# Altium schematic symbol library Reference_Voltage.SchLib: 343 symbols (part 2 of 4)
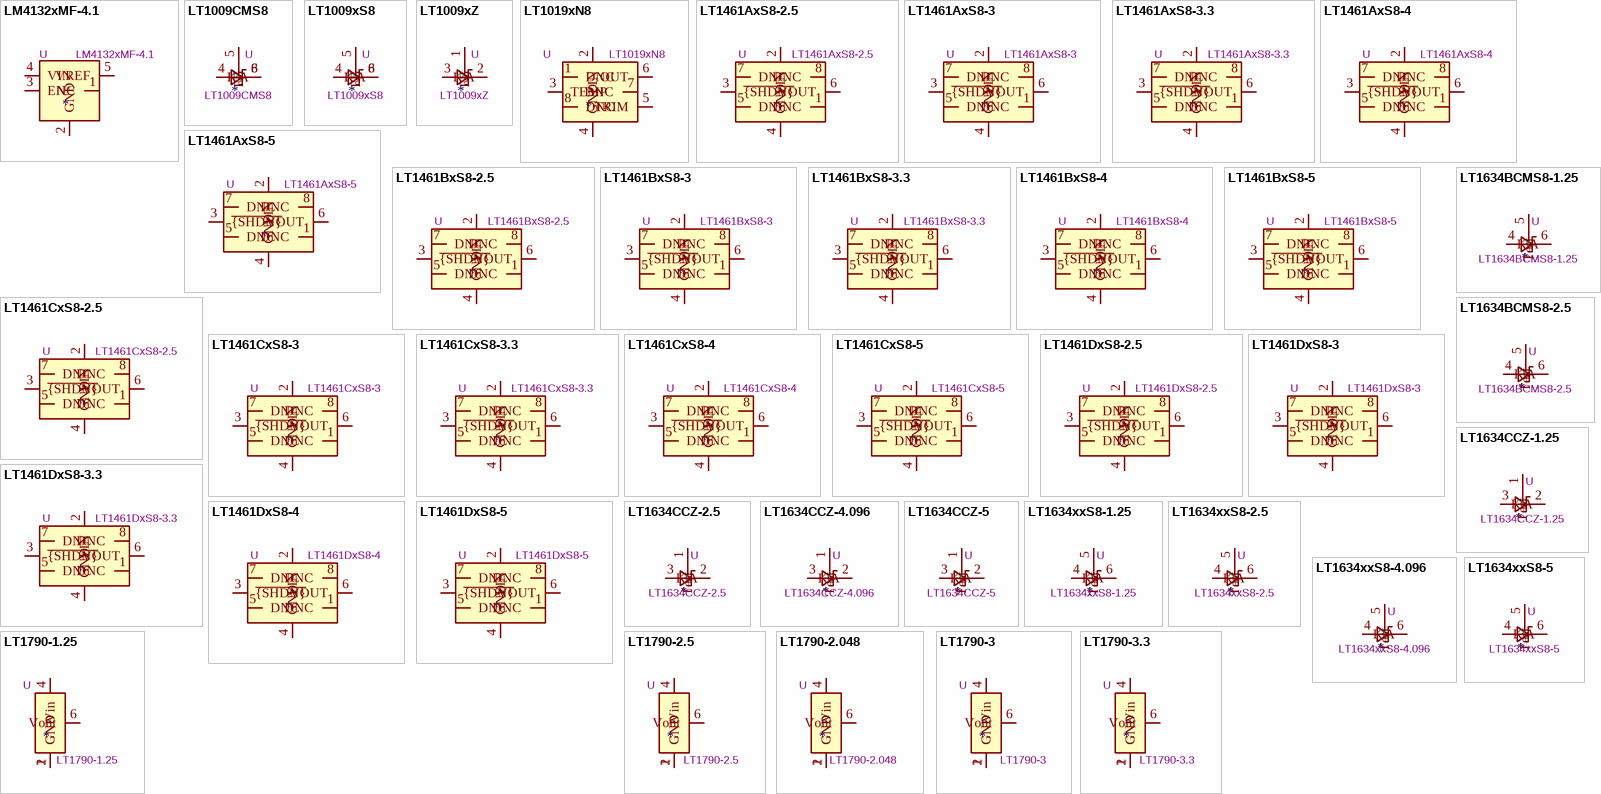
[diagram p9: symbols LM4132xMF-4.1 to LT1790-3.3]

## LT1634xxS8-4.096
designator *  value LT1634xxS8-4.096  Reference: U
4.096V Micropower Precision Shunt Voltage Reference, SO-8; ki_keywords: voltage reference Micropower; ki_fp_filters: SO?8*3.9x4.9mm*P1.27mm*; Footprint: Package_SO:SO-8_3.9x4.9mm_P1.27mm; Datasheet: https://www.analog.com/media/en/technical-documentation/data-sheets/1634ff.pdf; Description_: 4.096V Micropower Precision Shunt Voltage Reference, SO-8
pins: 4 A, 5 Test, 6 K

## LT1634xxS8-5
designator *  value LT1634xxS8-5  Reference: U
5V Micropower Precision Shunt Voltage Reference, SO-8; ki_keywords: voltage reference Micropower; ki_fp_filters: SO?8*3.9x4.9mm*P1.27mm*; Footprint: Package_SO:SO-8_3.9x4.9mm_P1.27mm; Datasheet: https://www.analog.com/media/en/technical-documentation/data-sheets/1634ff.pdf; Description_: 5V Micropower Precision Shunt Voltage Reference, SO-8
pins: 4 A, 5 Test, 6 K

## LT1790-1.25
designator *  value LT1790-1.25  Reference: U
1.25V Voltage Reference, Low Dropout, Micropower, TSOT-23-6; ki_keywords: voltage reference Micropower; ki_fp_filters: TSOT?23?6*; Footprint: Package_TO_SOT_SMD:TSOT-23-6; Datasheet: https://www.analog.com/media/en/technical-documentation/data-sheets/1790fc.pdf; Description_: 1.25V Voltage Reference, Low Dropout, Micropower, TSOT-23-6
pins: 1 GND, 2 GND, 4 Vin, 6 Vout

## LT1790-2.5
designator *  value LT1790-2.5  Reference: U
2.5V Voltage Reference, Low Dropout, Micropower, TSOT-23-6; ki_keywords: voltage reference Micropower; ki_fp_filters: TSOT?23?6*; Footprint: Package_TO_SOT_SMD:TSOT-23-6; Datasheet: https://www.analog.com/media/en/technical-documentation/data-sheets/1790fc.pdf; Description_: 2.5V Voltage Reference, Low Dropout, Micropower, TSOT-23-6
pins: 1 GND, 2 GND, 4 Vin, 6 Vout

## LT1790-2.048
designator *  value LT1790-2.048  Reference: U
2.048V Voltage Reference, Low Dropout, Micropower, TSOT-23-6; ki_keywords: voltage reference Micropower; ki_fp_filters: TSOT?23?6*; Footprint: Package_TO_SOT_SMD:TSOT-23-6; Datasheet: https://www.analog.com/media/en/technical-documentation/data-sheets/1790fc.pdf; Description_: 2.048V Voltage Reference, Low Dropout, Micropower, TSOT-23-6
pins: 1 GND, 2 GND, 4 Vin, 6 Vout

## LT1790-3
designator *  value LT1790-3  Reference: U
3V Voltage Reference, Low Dropout, Micropower, TSOT-23-6; ki_keywords: voltage reference Micropower; ki_fp_filters: TSOT?23?6*; Footprint: Package_TO_SOT_SMD:TSOT-23-6; Datasheet: https://www.analog.com/media/en/technical-documentation/data-sheets/1790fc.pdf; Description_: 3V Voltage Reference, Low Dropout, Micropower, TSOT-23-6
pins: 1 GND, 2 GND, 4 Vin, 6 Vout

## LT1790-3.3
designator *  value LT1790-3.3  Reference: U
3.3V Voltage Reference, Low Dropout, Micropower, TSOT-23-6; ki_keywords: voltage reference Micropower; ki_fp_filters: TSOT?23?6*; Footprint: Package_TO_SOT_SMD:TSOT-23-6; Datasheet: https://www.analog.com/media/en/technical-documentation/data-sheets/1790fc.pdf; Description_: 3.3V Voltage Reference, Low Dropout, Micropower, TSOT-23-6
pins: 1 GND, 2 GND, 4 Vin, 6 Vout

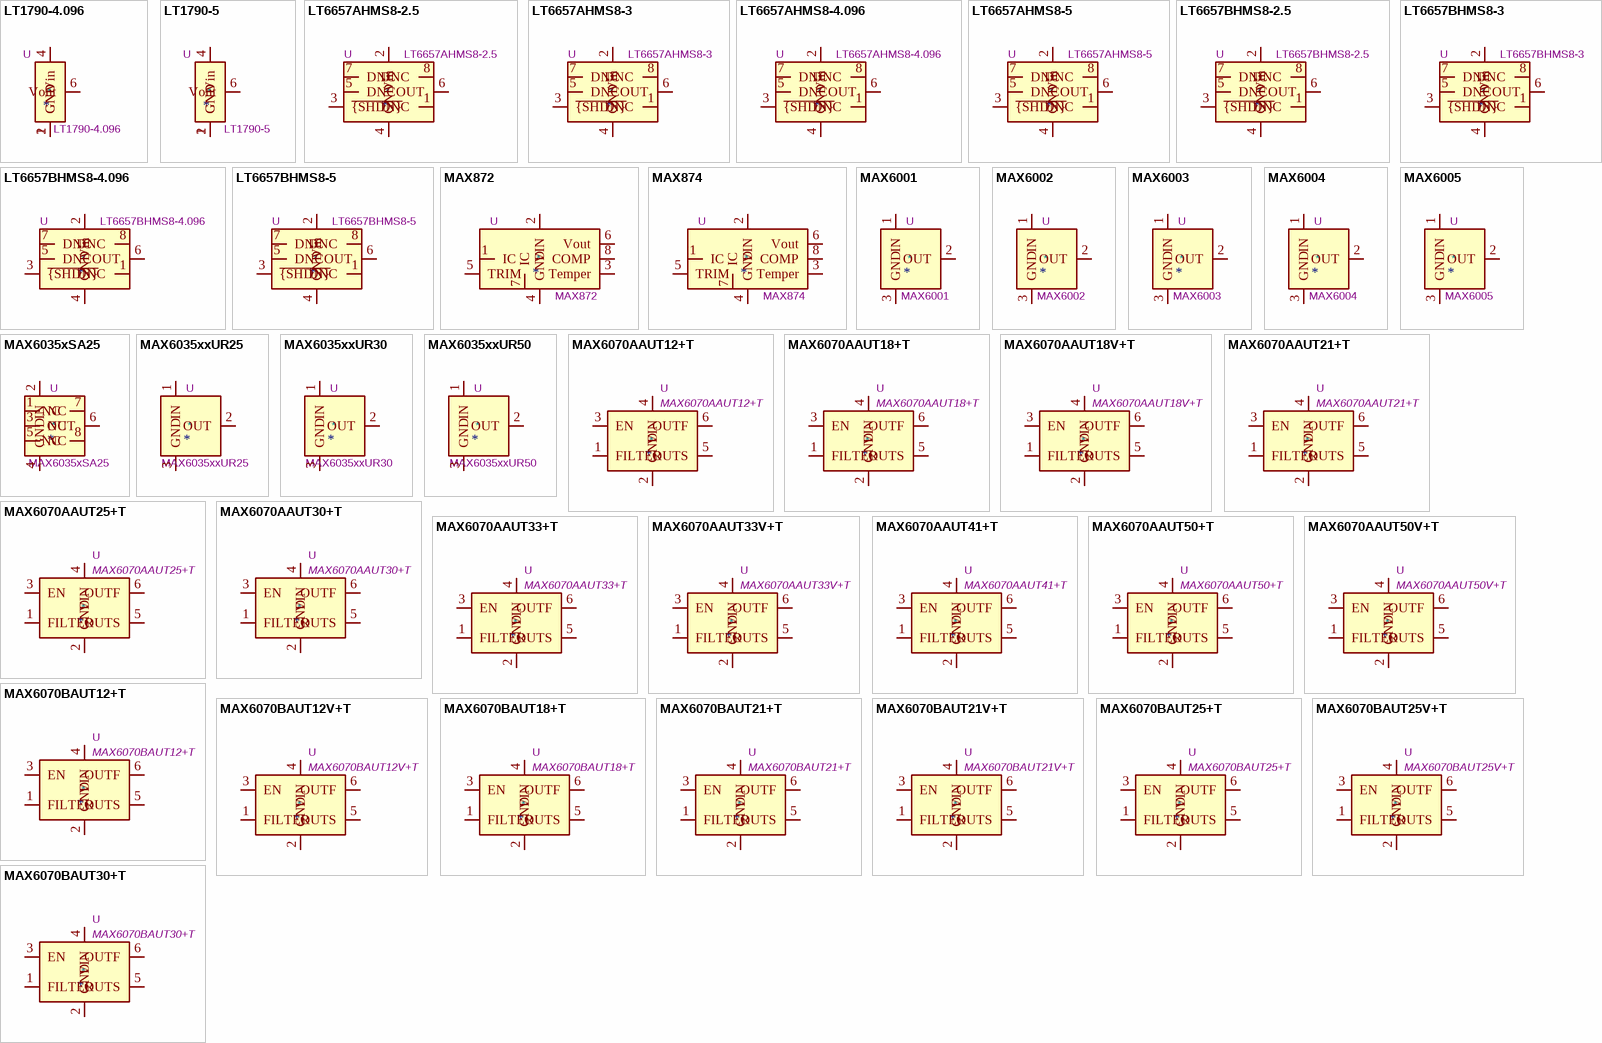
[diagram p3: symbols LT1790-4.096 to MAX6070BAUT30+T]

## LT1790-4.096
designator *  value LT1790-4.096  Reference: U
4.096V Voltage Reference, Low Dropout, Micropower, TSOT-23-6; ki_keywords: voltage reference Micropower; ki_fp_filters: TSOT?23?6*; Footprint: Package_TO_SOT_SMD:TSOT-23-6; Datasheet: https://www.analog.com/media/en/technical-documentation/data-sheets/1790fc.pdf; Description_: 4.096V Voltage Reference, Low Dropout, Micropower, TSOT-23-6
pins: 1 GND, 2 GND, 4 Vin, 6 Vout

## LT1790-5
designator *  value LT1790-5  Reference: U
5V Voltage Reference, Low Dropout, Micropower, TSOT-23-6; ki_keywords: voltage reference Micropower; ki_fp_filters: TSOT?23?6*; Footprint: Package_TO_SOT_SMD:TSOT-23-6; Datasheet: https://www.analog.com/media/en/technical-documentation/data-sheets/1790fc.pdf; Description_: 5V Voltage Reference, Low Dropout, Micropower, TSOT-23-6
pins: 1 GND, 2 GND, 4 Vin, 6 Vout

## LT6657AHMS8-2.5
designator *  value LT6657AHMS8-2.5  Reference: U
Precision voltage reference, 40V input, 10mA output, 1.5ppm/C drift, 2.5V output, MSOP-8; ki_keywords: voltage reference vref; ki_fp_filters: MSOP*3x3mm*P0.65mm*; Footprint: Package_SO:MSOP-8_3x3mm_P0.65mm; Datasheet: https://www.analog.com/media/en/technical-documentation/data-sheets/6657fd.pdf; Description_: Precision voltage reference, 40V input, 10mA output, 1.5ppm/C drift, 2.5V output, MSOP-8
pins: 1 DNC, 2 Vin, 3 ~{{SHDN}}, 4 GND, 5 DNC, 6 OUT, 7 DNC, 8 DNC

## LT6657AHMS8-3
designator *  value LT6657AHMS8-3  Reference: U
Precision voltage reference, 40V input, 10mA output, 1.5ppm/C drift, 3.0V output, MSOP-8; ki_keywords: voltage reference vref; ki_fp_filters: MSOP*3x3mm*P0.65mm*; Footprint: Package_SO:MSOP-8_3x3mm_P0.65mm; Datasheet: https://www.analog.com/media/en/technical-documentation/data-sheets/6657fd.pdf; Description_: Precision voltage reference, 40V input, 10mA output, 1.5ppm/C drift, 3.0V output, MSOP-8
pins: 1 DNC, 2 Vin, 3 ~{{SHDN}}, 4 GND, 5 DNC, 6 OUT, 7 DNC, 8 DNC

## LT6657AHMS8-4.096
designator *  value LT6657AHMS8-4.096  Reference: U
Precision voltage reference, 40V input, 10mA output, 1.5ppm/C drift, 4.096V output, MSOP-8; ki_keywords: voltage reference vref; ki_fp_filters: MSOP*3x3mm*P0.65mm*; Footprint: Package_SO:MSOP-8_3x3mm_P0.65mm; Datasheet: https://www.analog.com/media/en/technical-documentation/data-sheets/6657fd.pdf; Description_: Precision voltage reference, 40V input, 10mA output, 1.5ppm/C drift, 4.096V output, MSOP-8
pins: 1 DNC, 2 Vin, 3 ~{{SHDN}}, 4 GND, 5 DNC, 6 OUT, 7 DNC, 8 DNC

## LT6657AHMS8-5
designator *  value LT6657AHMS8-5  Reference: U
Precision voltage reference, 40V input, 10mA output, 1.5ppm/C drift, 5.0V output, MSOP-8; ki_keywords: voltage reference vref; ki_fp_filters: MSOP*3x3mm*P0.65mm*; Footprint: Package_SO:MSOP-8_3x3mm_P0.65mm; Datasheet: https://www.analog.com/media/en/technical-documentation/data-sheets/6657fd.pdf; Description_: Precision voltage reference, 40V input, 10mA output, 1.5ppm/C drift, 5.0V output, MSOP-8
pins: 1 DNC, 2 Vin, 3 ~{{SHDN}}, 4 GND, 5 DNC, 6 OUT, 7 DNC, 8 DNC

## LT6657BHMS8-2.5
designator *  value LT6657BHMS8-2.5  Reference: U
Precision voltage reference, 40V input, 10mA output, 3.0ppm/C drift, 2.5V output, MSOP-8; ki_keywords: voltage reference vref; ki_fp_filters: MSOP*3x3mm*P0.65mm*; Footprint: Package_SO:MSOP-8_3x3mm_P0.65mm; Datasheet: https://www.analog.com/media/en/technical-documentation/data-sheets/6657fd.pdf; Description_: Precision voltage reference, 40V input, 10mA output, 3.0ppm/C drift, 2.5V output, MSOP-8
pins: 1 DNC, 2 Vin, 3 ~{{SHDN}}, 4 GND, 5 DNC, 6 OUT, 7 DNC, 8 DNC

## LT6657BHMS8-3
designator *  value LT6657BHMS8-3  Reference: U
Precision voltage reference, 40V input, 10mA output, 3.0ppm/C drift, 3.0V output, MSOP-8; ki_keywords: voltage reference vref; ki_fp_filters: MSOP*3x3mm*P0.65mm*; Footprint: Package_SO:MSOP-8_3x3mm_P0.65mm; Datasheet: https://www.analog.com/media/en/technical-documentation/data-sheets/6657fd.pdf; Description_: Precision voltage reference, 40V input, 10mA output, 3.0ppm/C drift, 3.0V output, MSOP-8
pins: 1 DNC, 2 Vin, 3 ~{{SHDN}}, 4 GND, 5 DNC, 6 OUT, 7 DNC, 8 DNC

## LT6657BHMS8-4.096
designator *  value LT6657BHMS8-4.096  Reference: U
Precision voltage reference, 40V input, 10mA output, 3ppm/C drift, 4.096V output, MSOP-8; ki_keywords: voltage reference vref; ki_fp_filters: MSOP*3x3mm*P0.65mm*; Footprint: Package_SO:MSOP-8_3x3mm_P0.65mm; Datasheet: https://www.analog.com/media/en/technical-documentation/data-sheets/6657fd.pdf; Description_: Precision voltage reference, 40V input, 10mA output, 3ppm/C drift, 4.096V output, MSOP-8
pins: 1 DNC, 2 Vin, 3 ~{{SHDN}}, 4 GND, 5 DNC, 6 OUT, 7 DNC, 8 DNC

## LT6657BHMS8-5
designator *  value LT6657BHMS8-5  Reference: U
Precision voltage reference, 40V input, 10mA output, 3.0ppm/C drift, 5.0V output, MSOP-8; ki_keywords: voltage reference vref; ki_fp_filters: MSOP*3x3mm*P0.65mm*; Footprint: Package_SO:MSOP-8_3x3mm_P0.65mm; Datasheet: https://www.analog.com/media/en/technical-documentation/data-sheets/6657fd.pdf; Description_: Precision voltage reference, 40V input, 10mA output, 3.0ppm/C drift, 5.0V output, MSOP-8
pins: 1 DNC, 2 Vin, 3 ~{{SHDN}}, 4 GND, 5 DNC, 6 OUT, 7 DNC, 8 DNC

## MAX872
designator *  value MAX872  Reference: U
10µA Low-Dropout Precision Voltage Reference, SO-8/DIP-8; ki_fp_filters: DIP*W7.62mm* SOIC*3.9x4.9mm*P1.27mm*; Datasheet: https://pdfserv.maximintegrated.com/en/ds/MAX872-MAX874.pdf; Description_: 10µA Low-Dropout Precision Voltage Reference, SO-8/DIP-8; ki_keywords: Low-Dropout Precision Voltage Reference
pins: 1 IC, 2 VIN, 3 Temper, 4 GND, 5 TRIM, 6 Vout, 7 IC, 8 COMP

## MAX874
designator *  value MAX874  Reference: U
10µA Low-Dropout Precision Voltage Reference, SO-8/DIP-8; ki_fp_filters: DIP*W7.62mm* SOIC*3.9x4.9mm*P1.27mm*; Datasheet: https://pdfserv.maximintegrated.com/en/ds/MAX872-MAX874.pdf; Description_: 10µA Low-Dropout Precision Voltage Reference, SO-8/DIP-8; ki_keywords: Low-Dropout Precision Voltage Reference
pins: 1 IC, 2 VIN, 3 Temper, 4 GND, 5 TRIM, 6 Vout, 7 IC, 8 COMP

## MAX6001
designator *  value MAX6001  Reference: U
1.250V series voltage reference, ±1% accuracy,  100ppm/°C temperature coefficient, SOT-23; ki_keywords: voltage reference ldo; ki_fp_filters: SOT?23*; Footprint: Package_TO_SOT_SMD:SOT-23; Datasheet: https://www.analog.com/media/en/technical-documentation/data-sheets/MAX6001-MAX6005.pdf; Description_: 1.250V series voltage reference, ±1% accuracy,  100ppm/°C temperature coefficient, SOT-23
pins: 1 IN, 2 OUT, 3 GND

## MAX6002
designator *  value MAX6002  Reference: U
2.5V series voltage reference, ±1% accuracy,  100ppm/°C temperature coefficient, SOT-23; ki_keywords: voltage reference ldo; ki_fp_filters: SOT?23*; Footprint: Package_TO_SOT_SMD:SOT-23; Datasheet: https://www.analog.com/media/en/technical-documentation/data-sheets/MAX6001-MAX6005.pdf; Description_: 2.5V series voltage reference, ±1% accuracy,  100ppm/°C temperature coefficient, SOT-23
pins: 1 IN, 2 OUT, 3 GND

## MAX6003
designator *  value MAX6003  Reference: U
3.0V series voltage reference, ±1% accuracy,  100ppm/°C temperature coefficient, SOT-23; ki_keywords: voltage reference ldo; ki_fp_filters: SOT?23*; Footprint: Package_TO_SOT_SMD:SOT-23; Datasheet: https://www.analog.com/media/en/technical-documentation/data-sheets/MAX6001-MAX6005.pdf; Description_: 3.0V series voltage reference, ±1% accuracy,  100ppm/°C temperature coefficient, SOT-23
pins: 1 IN, 2 OUT, 3 GND

## MAX6004
designator *  value MAX6004  Reference: U
4.096V series voltage reference, ±1% accuracy,  100ppm/°C temperature coefficient, SOT-23; ki_keywords: voltage reference ldo; ki_fp_filters: SOT?23*; Footprint: Package_TO_SOT_SMD:SOT-23; Datasheet: https://www.analog.com/media/en/technical-documentation/data-sheets/MAX6001-MAX6005.pdf; Description_: 4.096V series voltage reference, ±1% accuracy,  100ppm/°C temperature coefficient, SOT-23
pins: 1 IN, 2 OUT, 3 GND

## MAX6005
designator *  value MAX6005  Reference: U
5.0V series voltage reference, ±1% accuracy,  100ppm/°C temperature coefficient, SOT-23; ki_keywords: voltage reference ldo; ki_fp_filters: SOT?23*; Footprint: Package_TO_SOT_SMD:SOT-23; Datasheet: https://www.analog.com/media/en/technical-documentation/data-sheets/MAX6001-MAX6005.pdf; Description_: 5.0V series voltage reference, ±1% accuracy,  100ppm/°C temperature coefficient, SOT-23
pins: 1 IN, 2 OUT, 3 GND

## MAX6035xSA25
designator *  value MAX6035xSA25  Reference: U
2.5V, High-Supply-Voltage, Precision Voltage Reference, SOIC-8; ki_keywords: vref; ki_fp_filters: SOIC*3.9x4.9mm*P1.27mm*; Footprint: Package_SO:SOIC-8_3.9x4.9mm_P1.27mm; Datasheet: https://datasheets.maximintegrated.com/en/ds/MAX6035.pdf; Description_: 2.5V, High-Supply-Voltage, Precision Voltage Reference, SOIC-8
pins: 1 NC, 2 IN, 3 NC, 4 GND, 5 NC, 6 OUT, 7 NC, 8 NC

## MAX6035xxUR25
designator *  value MAX6035xxUR25  Reference: U
2.5V, High-Supply-Voltage, Precision Voltage Reference, SOT-23; ki_keywords: vref; ki_fp_filters: SOT?23*; Footprint: Package_TO_SOT_SMD:SOT-23; Datasheet: https://datasheets.maximintegrated.com/en/ds/MAX6035.pdf; Description_: 2.5V, High-Supply-Voltage, Precision Voltage Reference, SOT-23
pins: 1 IN, 2 OUT, 3 GND

## MAX6035xxUR30
designator *  value MAX6035xxUR30  Reference: U
3V, High-Supply-Voltage, Precision Voltage Reference, SOT-23; ki_keywords: vref; ki_fp_filters: SOT?23*; Footprint: Package_TO_SOT_SMD:SOT-23; Datasheet: https://datasheets.maximintegrated.com/en/ds/MAX6035.pdf; Description_: 3V, High-Supply-Voltage, Precision Voltage Reference, SOT-23
pins: 1 IN, 2 OUT, 3 GND

## MAX6035xxUR50
designator *  value MAX6035xxUR50  Reference: U
5V, High-Supply-Voltage, Precision Voltage Reference, SOT-23; ki_keywords: vref; ki_fp_filters: SOT?23*; Footprint: Package_TO_SOT_SMD:SOT-23; Datasheet: https://datasheets.maximintegrated.com/en/ds/MAX6035.pdf; Description_: 5V, High-Supply-Voltage, Precision Voltage Reference, SOT-23
pins: 1 IN, 2 OUT, 3 GND

## MAX6070AAUT12+T
designator *  value MAX6070AAUT12+T  Reference: U
Low-Noise, High-Precision Series Voltage Reference, 1.25V, ±0.04% initial accuracy, SOT-23-6; ki_keywords: Low Noise Precision Voltage Reference; ki_fp_filters: SOT?23*; Footprint: Package_TO_SOT_SMD:SOT-23-6; Datasheet: https://www.analog.com/media/en/technical-documentation/data-sheets/max6070-max6071.pdf; Description_: Low-Noise, High-Precision Series Voltage Reference, 1.25V, ±0.04% initial accuracy, SOT-23-6
pins: 1 FILTER, 2 GND, 3 EN, 4 VIN, 5 OUTS, 6 OUTF

## MAX6070AAUT18+T
designator *  value MAX6070AAUT18+T  Reference: U
Low-Noise, High-Precision Series Voltage Reference, 1.8V, ±0.04% initial accuracy, SOT-23-6; ki_keywords: Low Noise Precision Voltage Reference; ki_fp_filters: SOT?23*; Footprint: Package_TO_SOT_SMD:SOT-23-6; Datasheet: https://www.analog.com/media/en/technical-documentation/data-sheets/max6070-max6071.pdf; Description_: Low-Noise, High-Precision Series Voltage Reference, 1.8V, ±0.04% initial accuracy, SOT-23-6
pins: 1 FILTER, 2 GND, 3 EN, 4 VIN, 5 OUTS, 6 OUTF

## MAX6070AAUT18V+T
designator *  value MAX6070AAUT18V+T  Reference: U
Low-Noise, High-Precision Series Voltage Reference, 1.8V, ±0.04% initial accuracy, SOT-23-6; ki_keywords: Low Noise Precision Voltage Reference AEC-Q100 MAX6070AAUT18/V+T; ki_fp_filters: SOT?23*; Footprint: Package_TO_SOT_SMD:SOT-23-6; Datasheet: https://www.analog.com/media/en/technical-documentation/data-sheets/max6070-max6071.pdf; Description_: Low-Noise, High-Precision Series Voltage Reference, 1.8V, ±0.04% initial accuracy, SOT-23-6
pins: 1 FILTER, 2 GND, 3 EN, 4 VIN, 5 OUTS, 6 OUTF

## MAX6070AAUT21+T
designator *  value MAX6070AAUT21+T  Reference: U
Low-Noise, High-Precision Series Voltage Reference, 2.048V, ±0.04% initial accuracy, SOT-23-6; ki_keywords: Low Noise Precision Voltage Reference; ki_fp_filters: SOT?23*; Footprint: Package_TO_SOT_SMD:SOT-23-6; Datasheet: https://www.analog.com/media/en/technical-documentation/data-sheets/MAX6070-MAX6071.pdf; Description_: Low-Noise, High-Precision Series Voltage Reference, 2.048V, ±0.04% initial accuracy, SOT-23-6
pins: 1 FILTER, 2 GND, 3 EN, 4 VIN, 5 OUTS, 6 OUTF

## MAX6070AAUT25+T
designator *  value MAX6070AAUT25+T  Reference: U
Low-Noise, High-Precision Series Voltage Reference, 2.5V, ±0.04% initial accuracy, SOT-23-6; ki_keywords: Low Noise Precision Voltage Reference; ki_fp_filters: SOT?23*; Footprint: Package_TO_SOT_SMD:SOT-23-6; Datasheet: https://www.analog.com/media/en/technical-documentation/data-sheets/MAX6070-MAX6071.pdf; Description_: Low-Noise, High-Precision Series Voltage Reference, 2.5V, ±0.04% initial accuracy, SOT-23-6
pins: 1 FILTER, 2 GND, 3 EN, 4 VIN, 5 OUTS, 6 OUTF

## MAX6070AAUT30+T
designator *  value MAX6070AAUT30+T  Reference: U
Low-Noise, High-Precision Series Voltage Reference, 3V, ±0.04% initial accuracy, SOT-23-6; ki_keywords: Low Noise Precision Voltage Reference; ki_fp_filters: SOT?23*; Footprint: Package_TO_SOT_SMD:SOT-23-6; Datasheet: https://www.analog.com/media/en/technical-documentation/data-sheets/MAX6070-MAX6071.pdf; Description_: Low-Noise, High-Precision Series Voltage Reference, 3V, ±0.04% initial accuracy, SOT-23-6
pins: 1 FILTER, 2 GND, 3 EN, 4 VIN, 5 OUTS, 6 OUTF

## MAX6070AAUT33+T
designator *  value MAX6070AAUT33+T  Reference: U
Low-Noise, High-Precision Series Voltage Reference, 3.3V, ±0.04% initial accuracy, SOT-23-6; ki_keywords: Low Noise Precision Voltage Reference; ki_fp_filters: SOT?23*; Footprint: Package_TO_SOT_SMD:SOT-23-6; Datasheet: https://www.analog.com/media/en/technical-documentation/data-sheets/MAX6070-MAX6071.pdf; Description_: Low-Noise, High-Precision Series Voltage Reference, 3.3V, ±0.04% initial accuracy, SOT-23-6
pins: 1 FILTER, 2 GND, 3 EN, 4 VIN, 5 OUTS, 6 OUTF

## MAX6070AAUT33V+T
designator *  value MAX6070AAUT33V+T  Reference: U
Low-Noise, High-Precision Series Voltage Reference, 3.3V, ±0.04% initial accuracy, SOT-23-6; ki_keywords: Low Noise Precision Voltage Reference AEC-Q100 MAX6070AAUT33/V+T; ki_fp_filters: SOT?23*; Footprint: Package_TO_SOT_SMD:SOT-23-6; Datasheet: https://www.analog.com/media/en/technical-documentation/data-sheets/MAX6070-MAX6071.pdf; Description_: Low-Noise, High-Precision Series Voltage Reference, 3.3V, ±0.04% initial accuracy, SOT-23-6
pins: 1 FILTER, 2 GND, 3 EN, 4 VIN, 5 OUTS, 6 OUTF

## MAX6070AAUT41+T
designator *  value MAX6070AAUT41+T  Reference: U
Low-Noise, High-Precision Series Voltage Reference, 4.096V, ±0.04% initial accuracy, SOT-23-6; ki_keywords: Low Noise Precision Voltage Reference; ki_fp_filters: SOT?23*; Footprint: Package_TO_SOT_SMD:SOT-23-6; Datasheet: https://www.analog.com/media/en/technical-documentation/data-sheets/MAX6070-MAX6071.pdf; Description_: Low-Noise, High-Precision Series Voltage Reference, 4.096V, ±0.04% initial accuracy, SOT-23-6
pins: 1 FILTER, 2 GND, 3 EN, 4 VIN, 5 OUTS, 6 OUTF

## MAX6070AAUT50+T
designator *  value MAX6070AAUT50+T  Reference: U
Low-Noise, High-Precision Series Voltage Reference, 5V, ±0.04% initial accuracy, SOT-23-6; ki_keywords: Low Noise Precision Voltage Reference; ki_fp_filters: SOT?23*; Footprint: Package_TO_SOT_SMD:SOT-23-6; Datasheet: https://www.analog.com/media/en/technical-documentation/data-sheets/MAX6070-MAX6071.pdf; Description_: Low-Noise, High-Precision Series Voltage Reference, 5V, ±0.04% initial accuracy, SOT-23-6
pins: 1 FILTER, 2 GND, 3 EN, 4 VIN, 5 OUTS, 6 OUTF

## MAX6070AAUT50V+T
designator *  value MAX6070AAUT50V+T  Reference: U
Low-Noise, High-Precision Series Voltage Reference, 5V, ±0.04% initial accuracy, SOT-23-6; ki_keywords: Low Noise Precision Voltage Reference AEC-Q100 MAX6070AAUT50/V+T; ki_fp_filters: SOT?23*; Footprint: Package_TO_SOT_SMD:SOT-23-6; Datasheet: https://www.analog.com/media/en/technical-documentation/data-sheets/MAX6070-MAX6071.pdf; Description_: Low-Noise, High-Precision Series Voltage Reference, 5V, ±0.04% initial accuracy, SOT-23-6
pins: 1 FILTER, 2 GND, 3 EN, 4 VIN, 5 OUTS, 6 OUTF

## MAX6070BAUT12+T
designator *  value MAX6070BAUT12+T  Reference: U
Low-Noise, High-Precision Series Voltage Reference, 1.25V, ±0.08% initial accuracy, SOT-23-6; ki_keywords: Low Noise Precision Voltage Reference; ki_fp_filters: SOT?23*; Footprint: Package_TO_SOT_SMD:SOT-23-6; Datasheet: https://www.analog.com/media/en/technical-documentation/data-sheets/MAX6070-MAX6071.pdf; Description_: Low-Noise, High-Precision Series Voltage Reference, 1.25V, ±0.08% initial accuracy, SOT-23-6
pins: 1 FILTER, 2 GND, 3 EN, 4 VIN, 5 OUTS, 6 OUTF

## MAX6070BAUT12V+T
designator *  value MAX6070BAUT12V+T  Reference: U
Low-Noise, High-Precision Series Voltage Reference, 1.25V, ±0.08% initial accuracy, SOT-23-6; ki_keywords: Low Noise Precision Voltage Reference AEC-Q100 MAX6070BAUT12/V+T; ki_fp_filters: SOT?23*; Footprint: Package_TO_SOT_SMD:SOT-23-6; Datasheet: https://www.analog.com/media/en/technical-documentation/data-sheets/MAX6070-MAX6071.pdf; Description_: Low-Noise, High-Precision Series Voltage Reference, 1.25V, ±0.08% initial accuracy, SOT-23-6
pins: 1 FILTER, 2 GND, 3 EN, 4 VIN, 5 OUTS, 6 OUTF

## MAX6070BAUT18+T
designator *  value MAX6070BAUT18+T  Reference: U
Low-Noise, High-Precision Series Voltage Reference, 1.8V, ±0.08% initial accuracy, SOT-23-6; ki_keywords: Low Noise Precision Voltage Reference; ki_fp_filters: SOT?23*; Footprint: Package_TO_SOT_SMD:SOT-23-6; Datasheet: https://www.analog.com/media/en/technical-documentation/data-sheets/MAX6070-MAX6071.pdf; Description_: Low-Noise, High-Precision Series Voltage Reference, 1.8V, ±0.08% initial accuracy, SOT-23-6
pins: 1 FILTER, 2 GND, 3 EN, 4 VIN, 5 OUTS, 6 OUTF

## MAX6070BAUT21+T
designator *  value MAX6070BAUT21+T  Reference: U
Low-Noise, High-Precision Series Voltage Reference, 2.048V, ±0.08% initial accuracy, SOT-23-6; ki_keywords: Low Noise Precision Voltage Reference; ki_fp_filters: SOT?23*; Footprint: Package_TO_SOT_SMD:SOT-23-6; Datasheet: https://www.analog.com/media/en/technical-documentation/data-sheets/MAX6070-MAX6071.pdf; Description_: Low-Noise, High-Precision Series Voltage Reference, 2.048V, ±0.08% initial accuracy, SOT-23-6
pins: 1 FILTER, 2 GND, 3 EN, 4 VIN, 5 OUTS, 6 OUTF

## MAX6070BAUT21V+T
designator *  value MAX6070BAUT21V+T  Reference: U
Low-Noise, High-Precision Series Voltage Reference, 2.048V, ±0.08% initial accuracy, SOT-23-6; ki_keywords: Low Noise Precision Voltage Reference AEC-Q100 MAX6070BAUT21/V+T; ki_fp_filters: SOT?23*; Footprint: Package_TO_SOT_SMD:SOT-23-6; Datasheet: https://www.analog.com/media/en/technical-documentation/data-sheets/MAX6070-MAX6071.pdf; Description_: Low-Noise, High-Precision Series Voltage Reference, 2.048V, ±0.08% initial accuracy, SOT-23-6
pins: 1 FILTER, 2 GND, 3 EN, 4 VIN, 5 OUTS, 6 OUTF

## MAX6070BAUT25+T
designator *  value MAX6070BAUT25+T  Reference: U
Low-Noise, High-Precision Series Voltage Reference, 2.5V, ±0.08% initial accuracy, SOT-23-6; ki_keywords: Low Noise Precision Voltage Reference; ki_fp_filters: SOT?23*; Footprint: Package_TO_SOT_SMD:SOT-23-6; Datasheet: https://www.analog.com/media/en/technical-documentation/data-sheets/MAX6070-MAX6071.pdf; Description_: Low-Noise, High-Precision Series Voltage Reference, 2.5V, ±0.08% initial accuracy, SOT-23-6
pins: 1 FILTER, 2 GND, 3 EN, 4 VIN, 5 OUTS, 6 OUTF

## MAX6070BAUT25V+T
designator *  value MAX6070BAUT25V+T  Reference: U
Low-Noise, High-Precision Series Voltage Reference, 2.5V, ±0.08% initial accuracy, SOT-23-6; ki_keywords: Low Noise Precision Voltage Reference AEC-Q100 MAX6070BAUT25/V+T; ki_fp_filters: SOT?23*; Footprint: Package_TO_SOT_SMD:SOT-23-6; Datasheet: https://www.analog.com/media/en/technical-documentation/data-sheets/MAX6070-MAX6071.pdf; Description_: Low-Noise, High-Precision Series Voltage Reference, 2.5V, ±0.08% initial accuracy, SOT-23-6
pins: 1 FILTER, 2 GND, 3 EN, 4 VIN, 5 OUTS, 6 OUTF

## MAX6070BAUT30+T
designator *  value MAX6070BAUT30+T  Reference: U
Low-Noise, High-Precision Series Voltage Reference, 3V, ±0.08% initial accuracy, SOT-23-6; ki_keywords: Low Noise Precision Voltage Reference; ki_fp_filters: SOT?23*; Footprint: Package_TO_SOT_SMD:SOT-23-6; Datasheet: https://www.analog.com/media/en/technical-documentation/data-sheets/MAX6070-MAX6071.pdf; Description_: Low-Noise, High-Precision Series Voltage Reference, 3V, ±0.08% initial accuracy, SOT-23-6
pins: 1 FILTER, 2 GND, 3 EN, 4 VIN, 5 OUTS, 6 OUTF

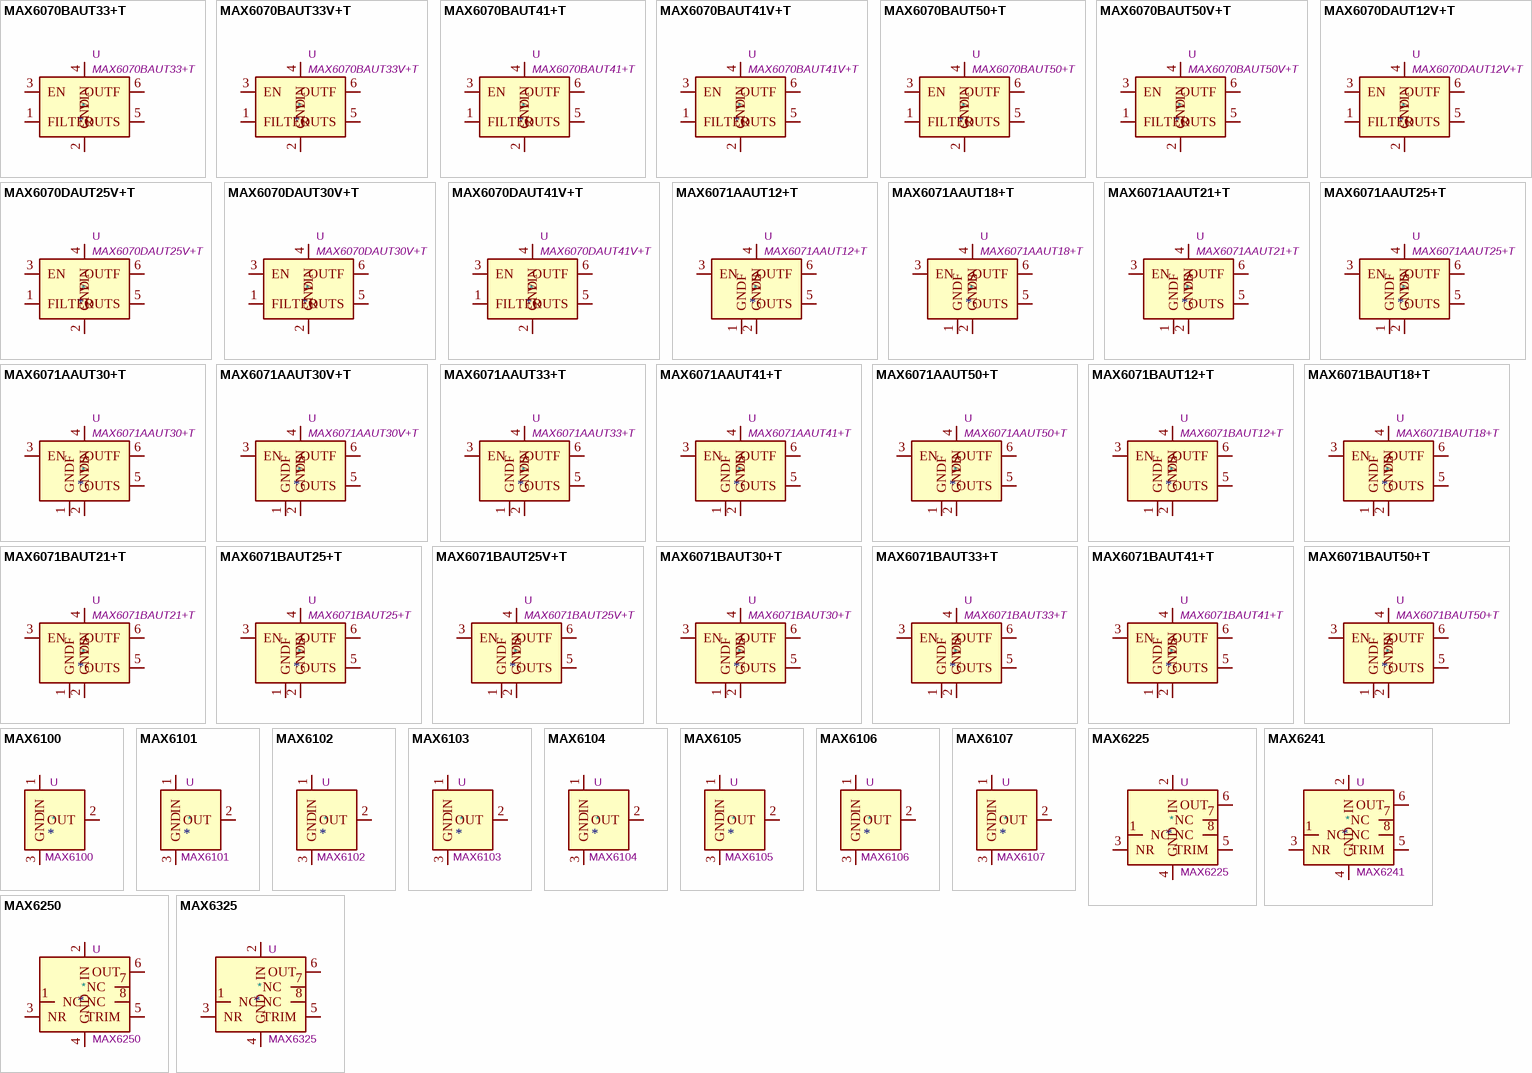
[diagram p4: symbols MAX6070BAUT33+T to MAX6325]

## MAX6070BAUT33+T
designator *  value MAX6070BAUT33+T  Reference: U
Low-Noise, High-Precision Series Voltage Reference, 3.3V, ±0.08% initial accuracy, SOT-23-6; ki_keywords: Low Noise Precision Voltage Reference; ki_fp_filters: SOT?23*; Footprint: Package_TO_SOT_SMD:SOT-23-6; Datasheet: https://www.analog.com/media/en/technical-documentation/data-sheets/MAX6070-MAX6071.pdf; Description_: Low-Noise, High-Precision Series Voltage Reference, 3.3V, ±0.08% initial accuracy, SOT-23-6
pins: 1 FILTER, 2 GND, 3 EN, 4 VIN, 5 OUTS, 6 OUTF

## MAX6070BAUT33V+T
designator *  value MAX6070BAUT33V+T  Reference: U
Low-Noise, High-Precision Series Voltage Reference, 3.3V, ±0.08% initial accuracy, SOT-23-6; ki_keywords: Low Noise Precision Voltage Reference AEC-Q100 MAX6070BAUT33/V+T; ki_fp_filters: SOT?23*; Footprint: Package_TO_SOT_SMD:SOT-23-6; Datasheet: https://www.analog.com/media/en/technical-documentation/data-sheets/MAX6070-MAX6071.pdf; Description_: Low-Noise, High-Precision Series Voltage Reference, 3.3V, ±0.08% initial accuracy, SOT-23-6
pins: 1 FILTER, 2 GND, 3 EN, 4 VIN, 5 OUTS, 6 OUTF

## MAX6070BAUT41+T
designator *  value MAX6070BAUT41+T  Reference: U
Low-Noise, High-Precision Series Voltage Reference, 4.096V, ±0.08% initial accuracy, SOT-23-6; ki_keywords: Low Noise Precision Voltage Reference; ki_fp_filters: SOT?23*; Footprint: Package_TO_SOT_SMD:SOT-23-6; Datasheet: https://www.analog.com/media/en/technical-documentation/data-sheets/MAX6070-MAX6071.pdf; Description_: Low-Noise, High-Precision Series Voltage Reference, 4.096V, ±0.08% initial accuracy, SOT-23-6
pins: 1 FILTER, 2 GND, 3 EN, 4 VIN, 5 OUTS, 6 OUTF

## MAX6070BAUT41V+T
designator *  value MAX6070BAUT41V+T  Reference: U
Low-Noise, High-Precision Series Voltage Reference, 4.096V, ±0.08% initial accuracy, SOT-23-6; ki_keywords: Low Noise Precision Voltage Reference AEC-Q100 MAX6070BAUT41/V+T; ki_fp_filters: SOT?23*; Footprint: Package_TO_SOT_SMD:SOT-23-6; Datasheet: https://www.analog.com/media/en/technical-documentation/data-sheets/MAX6070-MAX6071.pdf; Description_: Low-Noise, High-Precision Series Voltage Reference, 4.096V, ±0.08% initial accuracy, SOT-23-6
pins: 1 FILTER, 2 GND, 3 EN, 4 VIN, 5 OUTS, 6 OUTF

## MAX6070BAUT50+T
designator *  value MAX6070BAUT50+T  Reference: U
Low-Noise, High-Precision Series Voltage Reference, 5V, ±0.08% initial accuracy, SOT-23-6; ki_keywords: Low Noise Precision Voltage Reference; ki_fp_filters: SOT?23*; Footprint: Package_TO_SOT_SMD:SOT-23-6; Datasheet: https://www.analog.com/media/en/technical-documentation/data-sheets/MAX6070-MAX6071.pdf; Description_: Low-Noise, High-Precision Series Voltage Reference, 5V, ±0.08% initial accuracy, SOT-23-6
pins: 1 FILTER, 2 GND, 3 EN, 4 VIN, 5 OUTS, 6 OUTF

## MAX6070BAUT50V+T
designator *  value MAX6070BAUT50V+T  Reference: U
Low-Noise, High-Precision Series Voltage Reference, 5V, ±0.08% initial accuracy, SOT-23-6; ki_keywords: Low Noise Precision Voltage Reference AEC-Q100 MAX6070BAUT50/V+T; ki_fp_filters: SOT?23*; Footprint: Package_TO_SOT_SMD:SOT-23-6; Datasheet: https://www.analog.com/media/en/technical-documentation/data-sheets/MAX6070-MAX6071.pdf; Description_: Low-Noise, High-Precision Series Voltage Reference, 5V, ±0.08% initial accuracy, SOT-23-6
pins: 1 FILTER, 2 GND, 3 EN, 4 VIN, 5 OUTS, 6 OUTF

## MAX6070DAUT12V+T
designator *  value MAX6070DAUT12V+T  Reference: U
Low-Noise, High-Precision Series Voltage Reference, 1.25V, ±0.2% initial accuracy, SOT-23-6; ki_keywords: Low Noise Precision Voltage Reference AEC-Q100 MAX6070DAUT12/V+T; ki_fp_filters: SOT?23*; Footprint: Package_TO_SOT_SMD:SOT-23-6; Datasheet: https://www.analog.com/media/en/technical-documentation/data-sheets/MAX6070-MAX6071.pdf; Description_: Low-Noise, High-Precision Series Voltage Reference, 1.25V, ±0.2% initial accuracy, SOT-23-6
pins: 1 FILTER, 2 GND, 3 EN, 4 VIN, 5 OUTS, 6 OUTF

## MAX6070DAUT25V+T
designator *  value MAX6070DAUT25V+T  Reference: U
Low-Noise, High-Precision Series Voltage Reference, 2.5V, ±0.2% initial accuracy, SOT-23-6; ki_keywords: Low Noise Precision Voltage Reference AEC-Q100 MAX6070DAUT25/V+T; ki_fp_filters: SOT?23*; Footprint: Package_TO_SOT_SMD:SOT-23-6; Datasheet: https://www.analog.com/media/en/technical-documentation/data-sheets/MAX6070-MAX6071.pdf; Description_: Low-Noise, High-Precision Series Voltage Reference, 2.5V, ±0.2% initial accuracy, SOT-23-6
pins: 1 FILTER, 2 GND, 3 EN, 4 VIN, 5 OUTS, 6 OUTF

## MAX6070DAUT30V+T
designator *  value MAX6070DAUT30V+T  Reference: U
Low-Noise, High-Precision Series Voltage Reference, 3V, ±0.2% initial accuracy, SOT-23-6; ki_keywords: Low Noise Precision Voltage Reference AEC-Q100 MAX6070DAUT30/V+T; ki_fp_filters: SOT?23*; Footprint: Package_TO_SOT_SMD:SOT-23-6; Datasheet: https://www.analog.com/media/en/technical-documentation/data-sheets/MAX6070-MAX6071.pdf; Description_: Low-Noise, High-Precision Series Voltage Reference, 3V, ±0.2% initial accuracy, SOT-23-6
pins: 1 FILTER, 2 GND, 3 EN, 4 VIN, 5 OUTS, 6 OUTF

## MAX6070DAUT41V+T
designator *  value MAX6070DAUT41V+T  Reference: U
Low-Noise, High-Precision Series Voltage Reference, 4.096V, ±0.2% initial accuracy, SOT-23-6; ki_keywords: Low Noise Precision Voltage Reference AEC-Q100 MAX6070DAUT41/V+T; ki_fp_filters: SOT?23*; Footprint: Package_TO_SOT_SMD:SOT-23-6; Datasheet: https://www.analog.com/media/en/technical-documentation/data-sheets/MAX6070-MAX6071.pdf; Description_: Low-Noise, High-Precision Series Voltage Reference, 4.096V, ±0.2% initial accuracy, SOT-23-6
pins: 1 FILTER, 2 GND, 3 EN, 4 VIN, 5 OUTS, 6 OUTF

## MAX6071AAUT12+T
designator *  value MAX6071AAUT12+T  Reference: U
Low-Noise, High-Precision Series Voltage Reference, 1.25V, ±0.04% initial accuracy, SOT-23-6; ki_keywords: Low Noise Precision Voltage Reference; ki_fp_filters: SOT?23*; Footprint: Package_TO_SOT_SMD:SOT-23-6; Datasheet: https://www.analog.com/media/en/technical-documentation/data-sheets/max6070-max6071.pdf; Description_: Low-Noise, High-Precision Series Voltage Reference, 1.25V, ±0.04% initial accuracy, SOT-23-6
pins: 1 GNDF, 2 GNDS, 3 EN, 4 VIN, 5 OUTS, 6 OUTF

## MAX6071AAUT18+T
designator *  value MAX6071AAUT18+T  Reference: U
Low-Noise, High-Precision Series Voltage Reference, 1.8V, ±0.04% initial accuracy, SOT-23-6; ki_keywords: Low Noise Precision Voltage Reference; ki_fp_filters: SOT?23*; Footprint: Package_TO_SOT_SMD:SOT-23-6; Datasheet: https://www.analog.com/media/en/technical-documentation/data-sheets/MAX6070-MAX6071.pdf; Description_: Low-Noise, High-Precision Series Voltage Reference, 1.8V, ±0.04% initial accuracy, SOT-23-6
pins: 1 GNDF, 2 GNDS, 3 EN, 4 VIN, 5 OUTS, 6 OUTF

## MAX6071AAUT21+T
designator *  value MAX6071AAUT21+T  Reference: U
Low-Noise, High-Precision Series Voltage Reference, 2.048V, ±0.04% initial accuracy, SOT-23-6; ki_keywords: Low Noise Precision Voltage Reference; ki_fp_filters: SOT?23*; Footprint: Package_TO_SOT_SMD:SOT-23-6; Datasheet: https://www.analog.com/media/en/technical-documentation/data-sheets/MAX6070-MAX6071.pdf; Description_: Low-Noise, High-Precision Series Voltage Reference, 2.048V, ±0.04% initial accuracy, SOT-23-6
pins: 1 GNDF, 2 GNDS, 3 EN, 4 VIN, 5 OUTS, 6 OUTF

## MAX6071AAUT25+T
designator *  value MAX6071AAUT25+T  Reference: U
Low-Noise, High-Precision Series Voltage Reference, 2.5V, ±0.04% initial accuracy, SOT-23-6; ki_keywords: Low Noise Precision Voltage Reference; ki_fp_filters: SOT?23*; Footprint: Package_TO_SOT_SMD:SOT-23-6; Datasheet: https://www.analog.com/media/en/technical-documentation/data-sheets/MAX6070-MAX6071.pdf; Description_: Low-Noise, High-Precision Series Voltage Reference, 2.5V, ±0.04% initial accuracy, SOT-23-6
pins: 1 GNDF, 2 GNDS, 3 EN, 4 VIN, 5 OUTS, 6 OUTF

## MAX6071AAUT30+T
designator *  value MAX6071AAUT30+T  Reference: U
Low-Noise, High-Precision Series Voltage Reference, 3V, ±0.04% initial accuracy, SOT-23-6; ki_keywords: Low Noise Precision Voltage Reference; ki_fp_filters: SOT?23*; Footprint: Package_TO_SOT_SMD:SOT-23-6; Datasheet: https://www.analog.com/media/en/technical-documentation/data-sheets/MAX6070-MAX6071.pdf; Description_: Low-Noise, High-Precision Series Voltage Reference, 3V, ±0.04% initial accuracy, SOT-23-6
pins: 1 GNDF, 2 GNDS, 3 EN, 4 VIN, 5 OUTS, 6 OUTF

## MAX6071AAUT30V+T
designator *  value MAX6071AAUT30V+T  Reference: U
Low-Noise, High-Precision Series Voltage Reference, 3V, ±0.04% initial accuracy, SOT-23-6; ki_keywords: Low Noise Precision Voltage Reference AEC-Q100 MAX6071AAUT30/V+T; ki_fp_filters: SOT?23*; Footprint: Package_TO_SOT_SMD:SOT-23-6; Datasheet: https://www.analog.com/media/en/technical-documentation/data-sheets/MAX6070-MAX6071.pdf; Description_: Low-Noise, High-Precision Series Voltage Reference, 3V, ±0.04% initial accuracy, SOT-23-6
pins: 1 GNDF, 2 GNDS, 3 EN, 4 VIN, 5 OUTS, 6 OUTF

## MAX6071AAUT33+T
designator *  value MAX6071AAUT33+T  Reference: U
Low-Noise, High-Precision Series Voltage Reference, 3.3V, ±0.04% initial accuracy, SOT-23-6; ki_keywords: Low Noise Precision Voltage Reference; ki_fp_filters: SOT?23*; Footprint: Package_TO_SOT_SMD:SOT-23-6; Datasheet: https://www.analog.com/media/en/technical-documentation/data-sheets/MAX6070-MAX6071.pdf; Description_: Low-Noise, High-Precision Series Voltage Reference, 3.3V, ±0.04% initial accuracy, SOT-23-6
pins: 1 GNDF, 2 GNDS, 3 EN, 4 VIN, 5 OUTS, 6 OUTF

## MAX6071AAUT41+T
designator *  value MAX6071AAUT41+T  Reference: U
Low-Noise, High-Precision Series Voltage Reference, 4.096V, ±0.04% initial accuracy, SOT-23-6; ki_keywords: Low Noise Precision Voltage Reference; ki_fp_filters: SOT?23*; Footprint: Package_TO_SOT_SMD:SOT-23-6; Datasheet: https://www.analog.com/media/en/technical-documentation/data-sheets/MAX6070-MAX6071.pdf; Description_: Low-Noise, High-Precision Series Voltage Reference, 4.096V, ±0.04% initial accuracy, SOT-23-6
pins: 1 GNDF, 2 GNDS, 3 EN, 4 VIN, 5 OUTS, 6 OUTF

## MAX6071AAUT50+T
designator *  value MAX6071AAUT50+T  Reference: U
Low-Noise, High-Precision Series Voltage Reference, 5V, ±0.04% initial accuracy, SOT-23-6; ki_keywords: Low Noise Precision Voltage Reference; ki_fp_filters: SOT?23*; Footprint: Package_TO_SOT_SMD:SOT-23-6; Datasheet: https://www.analog.com/media/en/technical-documentation/data-sheets/MAX6070-MAX6071.pdf; Description_: Low-Noise, High-Precision Series Voltage Reference, 5V, ±0.04% initial accuracy, SOT-23-6
pins: 1 GNDF, 2 GNDS, 3 EN, 4 VIN, 5 OUTS, 6 OUTF

## MAX6071BAUT12+T
designator *  value MAX6071BAUT12+T  Reference: U
Low-Noise, High-Precision Series Voltage Reference, 1.25V, ±0.08% initial accuracy, SOT-23-6; ki_keywords: Low Noise Precision Voltage Reference; ki_fp_filters: SOT?23*; Footprint: Package_TO_SOT_SMD:SOT-23-6; Datasheet: https://www.analog.com/media/en/technical-documentation/data-sheets/MAX6070-MAX6071.pdf; Description_: Low-Noise, High-Precision Series Voltage Reference, 1.25V, ±0.08% initial accuracy, SOT-23-6
pins: 1 GNDF, 2 GNDS, 3 EN, 4 VIN, 5 OUTS, 6 OUTF

## MAX6071BAUT18+T
designator *  value MAX6071BAUT18+T  Reference: U
Low-Noise, High-Precision Series Voltage Reference, 1.8V, ±0.08% initial accuracy, SOT-23-6; ki_keywords: Low Noise Precision Voltage Reference; ki_fp_filters: SOT?23*; Footprint: Package_TO_SOT_SMD:SOT-23-6; Datasheet: https://www.analog.com/media/en/technical-documentation/data-sheets/MAX6070-MAX6071.pdf; Description_: Low-Noise, High-Precision Series Voltage Reference, 1.8V, ±0.08% initial accuracy, SOT-23-6
pins: 1 GNDF, 2 GNDS, 3 EN, 4 VIN, 5 OUTS, 6 OUTF

## MAX6071BAUT21+T
designator *  value MAX6071BAUT21+T  Reference: U
Low-Noise, High-Precision Series Voltage Reference, 2.048V, ±0.08% initial accuracy, SOT-23-6; ki_keywords: Low Noise Precision Voltage Reference; ki_fp_filters: SOT?23*; Footprint: Package_TO_SOT_SMD:SOT-23-6; Datasheet: https://www.analog.com/media/en/technical-documentation/data-sheets/MAX6070-MAX6071.pdf; Description_: Low-Noise, High-Precision Series Voltage Reference, 2.048V, ±0.08% initial accuracy, SOT-23-6
pins: 1 GNDF, 2 GNDS, 3 EN, 4 VIN, 5 OUTS, 6 OUTF

## MAX6071BAUT25+T
designator *  value MAX6071BAUT25+T  Reference: U
Low-Noise, High-Precision Series Voltage Reference, 2.5V, ±0.08% initial accuracy, SOT-23-6; ki_keywords: Low Noise Precision Voltage Reference; ki_fp_filters: SOT?23*; Footprint: Package_TO_SOT_SMD:SOT-23-6; Datasheet: https://www.analog.com/media/en/technical-documentation/data-sheets/MAX6070-MAX6071.pdf; Description_: Low-Noise, High-Precision Series Voltage Reference, 2.5V, ±0.08% initial accuracy, SOT-23-6
pins: 1 GNDF, 2 GNDS, 3 EN, 4 VIN, 5 OUTS, 6 OUTF

## MAX6071BAUT25V+T
designator *  value MAX6071BAUT25V+T  Reference: U
Low-Noise, High-Precision Series Voltage Reference, 2.5V, ±0.08% initial accuracy, SOT-23-6; ki_keywords: Low Noise Precision Voltage Reference AEC-Q100 MAX6071BAUT25/V+T; ki_fp_filters: SOT?23*; Footprint: Package_TO_SOT_SMD:SOT-23-6; Datasheet: https://www.analog.com/media/en/technical-documentation/data-sheets/MAX6070-MAX6071.pdf; Description_: Low-Noise, High-Precision Series Voltage Reference, 2.5V, ±0.08% initial accuracy, SOT-23-6
pins: 1 GNDF, 2 GNDS, 3 EN, 4 VIN, 5 OUTS, 6 OUTF

## MAX6071BAUT30+T
designator *  value MAX6071BAUT30+T  Reference: U
Low-Noise, High-Precision Series Voltage Reference, 3V, ±0.08% initial accuracy, SOT-23-6; ki_keywords: Low Noise Precision Voltage Reference; ki_fp_filters: SOT?23*; Footprint: Package_TO_SOT_SMD:SOT-23-6; Datasheet: https://www.analog.com/media/en/technical-documentation/data-sheets/MAX6070-MAX6071.pdf; Description_: Low-Noise, High-Precision Series Voltage Reference, 3V, ±0.08% initial accuracy, SOT-23-6
pins: 1 GNDF, 2 GNDS, 3 EN, 4 VIN, 5 OUTS, 6 OUTF

## MAX6071BAUT33+T
designator *  value MAX6071BAUT33+T  Reference: U
Low-Noise, High-Precision Series Voltage Reference, 3.3V, ±0.08% initial accuracy, SOT-23-6; ki_keywords: Low Noise Precision Voltage Reference; ki_fp_filters: SOT?23*; Footprint: Package_TO_SOT_SMD:SOT-23-6; Datasheet: https://www.analog.com/media/en/technical-documentation/data-sheets/MAX6070-MAX6071.pdf; Description_: Low-Noise, High-Precision Series Voltage Reference, 3.3V, ±0.08% initial accuracy, SOT-23-6
pins: 1 GNDF, 2 GNDS, 3 EN, 4 VIN, 5 OUTS, 6 OUTF

## MAX6071BAUT41+T
designator *  value MAX6071BAUT41+T  Reference: U
Low-Noise, High-Precision Series Voltage Reference, 4.096V, ±0.08% initial accuracy, SOT-23-6; ki_keywords: Low Noise Precision Voltage Reference; ki_fp_filters: SOT?23*; Footprint: Package_TO_SOT_SMD:SOT-23-6; Datasheet: https://www.analog.com/media/en/technical-documentation/data-sheets/MAX6070-MAX6071.pdf; Description_: Low-Noise, High-Precision Series Voltage Reference, 4.096V, ±0.08% initial accuracy, SOT-23-6
pins: 1 GNDF, 2 GNDS, 3 EN, 4 VIN, 5 OUTS, 6 OUTF

## MAX6071BAUT50+T
designator *  value MAX6071BAUT50+T  Reference: U
Low-Noise, High-Precision Series Voltage Reference, 5V, ±0.08% initial accuracy, SOT-23-6; ki_keywords: Low Noise Precision Voltage Reference; ki_fp_filters: SOT?23*; Footprint: Package_TO_SOT_SMD:SOT-23-6; Datasheet: https://www.analog.com/media/en/technical-documentation/data-sheets/MAX6070-MAX6071.pdf; Description_: Low-Noise, High-Precision Series Voltage Reference, 5V, ±0.08% initial accuracy, SOT-23-6
pins: 1 GNDF, 2 GNDS, 3 EN, 4 VIN, 5 OUTS, 6 OUTF

## MAX6100
designator *  value MAX6100  Reference: U
Low-dropout high current voltage reference, 1.800V, ±0.4% accuracy, SOT-23; ki_keywords: voltage reference ldo; ki_fp_filters: SOT?23*; Footprint: Package_TO_SOT_SMD:SOT-23; Datasheet: http://datasheets.maximintegrated.com/en/ds/MAX6100-MAX6107.pdf; Description_: Low-dropout high current voltage reference, 1.800V, ±0.4% accuracy, SOT-23
pins: 1 IN, 2 OUT, 3 GND

## MAX6101
designator *  value MAX6101  Reference: U
Low-dropout high current voltage reference, 1.250V, ±0.4% accuracy, SOT-23; ki_keywords: voltage reference ldo; ki_fp_filters: SOT?23*; Footprint: Package_TO_SOT_SMD:SOT-23; Datasheet: http://datasheets.maximintegrated.com/en/ds/MAX6100-MAX6107.pdf; Description_: Low-dropout high current voltage reference, 1.250V, ±0.4% accuracy, SOT-23
pins: 1 IN, 2 OUT, 3 GND

## MAX6102
designator *  value MAX6102  Reference: U
Low-dropout high current voltage reference, 2.500V, ±0.4% accuracy, SOT-23; ki_keywords: voltage reference ldo; ki_fp_filters: SOT?23*; Footprint: Package_TO_SOT_SMD:SOT-23; Datasheet: http://datasheets.maximintegrated.com/en/ds/MAX6100-MAX6107.pdf; Description_: Low-dropout high current voltage reference, 2.500V, ±0.4% accuracy, SOT-23
pins: 1 IN, 2 OUT, 3 GND

## MAX6103
designator *  value MAX6103  Reference: U
Low-dropout high current voltage reference, 3.000V, ±0.4% accuracy, SOT-23; ki_keywords: voltage reference ldo; ki_fp_filters: SOT?23*; Footprint: Package_TO_SOT_SMD:SOT-23; Datasheet: http://datasheets.maximintegrated.com/en/ds/MAX6100-MAX6107.pdf; Description_: Low-dropout high current voltage reference, 3.000V, ±0.4% accuracy, SOT-23
pins: 1 IN, 2 OUT, 3 GND

## MAX6104
designator *  value MAX6104  Reference: U
Low-dropout high current voltage reference, 4.096V, ±0.4% accuracy, SOT-23; ki_keywords: voltage reference ldo; ki_fp_filters: SOT?23*; Footprint: Package_TO_SOT_SMD:SOT-23; Datasheet: http://datasheets.maximintegrated.com/en/ds/MAX6100-MAX6107.pdf; Description_: Low-dropout high current voltage reference, 4.096V, ±0.4% accuracy, SOT-23
pins: 1 IN, 2 OUT, 3 GND

## MAX6105
designator *  value MAX6105  Reference: U
Low-dropout high current voltage reference, 5.000V, ±0.4% accuracy, SOT-23; ki_keywords: voltage reference ldo; ki_fp_filters: SOT?23*; Footprint: Package_TO_SOT_SMD:SOT-23; Datasheet: http://datasheets.maximintegrated.com/en/ds/MAX6100-MAX6107.pdf; Description_: Low-dropout high current voltage reference, 5.000V, ±0.4% accuracy, SOT-23
pins: 1 IN, 2 OUT, 3 GND

## MAX6106
designator *  value MAX6106  Reference: U
Low-dropout high current voltage reference, 2.048V, ±0.4% accuracy, SOT-23; ki_keywords: voltage reference ldo; ki_fp_filters: SOT?23*; Footprint: Package_TO_SOT_SMD:SOT-23; Datasheet: http://datasheets.maximintegrated.com/en/ds/MAX6100-MAX6107.pdf; Description_: Low-dropout high current voltage reference, 2.048V, ±0.4% accuracy, SOT-23
pins: 1 IN, 2 OUT, 3 GND

## MAX6107
designator *  value MAX6107  Reference: U
Low-dropout high current voltage reference, 4.500V, ±0.4% accuracy, SOT-23; ki_keywords: voltage reference ldo; ki_fp_filters: SOT?23*; Footprint: Package_TO_SOT_SMD:SOT-23; Datasheet: http://datasheets.maximintegrated.com/en/ds/MAX6100-MAX6107.pdf; Description_: Low-dropout high current voltage reference, 4.500V, ±0.4% accuracy, SOT-23
pins: 1 IN, 2 OUT, 3 GND

## MAX6225
designator *  value MAX6225  Reference: U
1ppm/°C Low-Noise Precision +2.5V Voltage Reference, SO-8/DIP-8; ki_keywords: precision voltage reference; ki_fp_filters: SOIC*P1.27mm* DIP*W7.62mm*; Datasheet: http://datasheets.maximintegrated.com/en/ds/MAX6225-MAX6250.pdf; Description_: 1ppm/°C Low-Noise Precision +2.5V Voltage Reference, SO-8/DIP-8
pins: 1 NC, 2 IN, 3 NR, 4 GND, 5 TRIM, 6 OUT, 7 NC, 8 NC

## MAX6241
designator *  value MAX6241  Reference: U
1ppm/°C Low-Noise Precision +4.096V Voltage Reference, SO-8/DIP-8; ki_keywords: precision voltage reference; ki_fp_filters: SOIC*P1.27mm* DIP*W7.62mm*; Datasheet: http://datasheets.maximintegrated.com/en/ds/MAX6225-MAX6250.pdf; Description_: 1ppm/°C Low-Noise Precision +4.096V Voltage Reference, SO-8/DIP-8
pins: 1 NC, 2 IN, 3 NR, 4 GND, 5 TRIM, 6 OUT, 7 NC, 8 NC

## MAX6250
designator *  value MAX6250  Reference: U
1ppm/°C Low-Noise Precision +5V Voltage Reference, SO-8/DIP-8; ki_keywords: precision voltage reference; ki_fp_filters: SOIC*P1.27mm* DIP*W7.62mm*; Datasheet: http://datasheets.maximintegrated.com/en/ds/MAX6225-MAX6250.pdf; Description_: 1ppm/°C Low-Noise Precision +5V Voltage Reference, SO-8/DIP-8
pins: 1 NC, 2 IN, 3 NR, 4 GND, 5 TRIM, 6 OUT, 7 NC, 8 NC

## MAX6325
designator *  value MAX6325  Reference: U
0.5ppm/°C Low-Noise +2.5V Voltage Reference, SO-8/DIP-8; ki_keywords: precision voltage reference; ki_fp_filters: SOIC*P1.27mm* DIP*W7.62mm*; Datasheet: http://datasheets.maximintegrated.com/en/ds/MAX6325-MAX6350.pdf; Description_: 0.5ppm/°C Low-Noise +2.5V Voltage Reference, SO-8/DIP-8
pins: 1 NC, 2 IN, 3 NR, 4 GND, 5 TRIM, 6 OUT, 7 NC, 8 NC

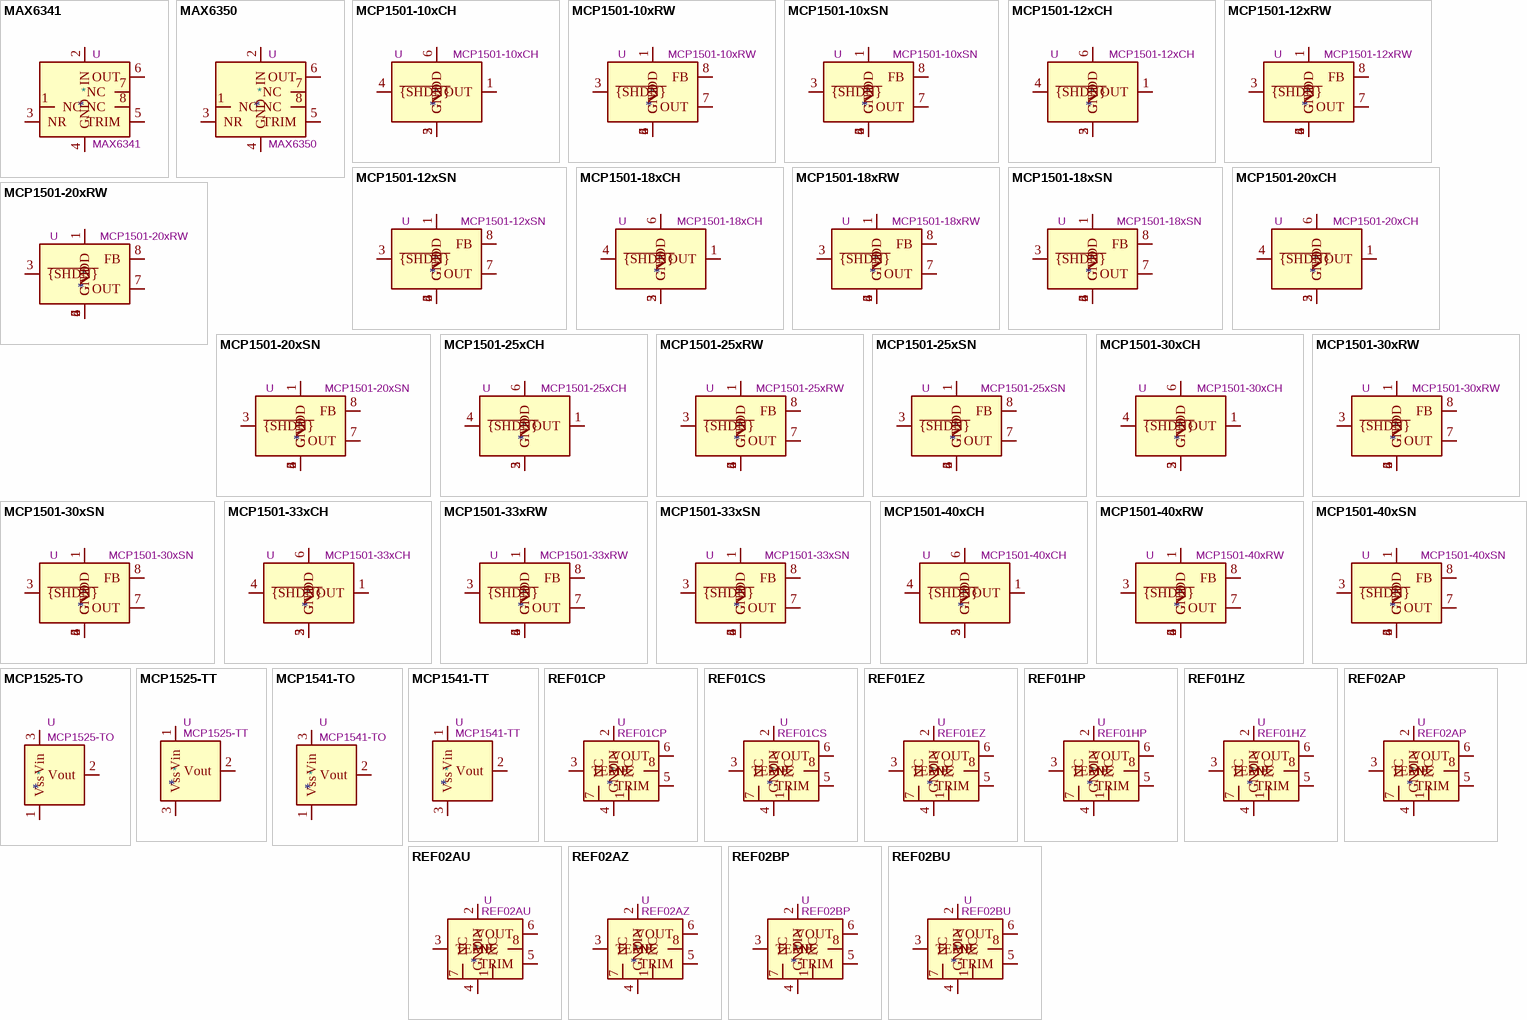
[diagram p5: symbols MAX6341 to REF02BU]

## MAX6341
designator *  value MAX6341  Reference: U
0.5ppm/°C Low-Noise +4.096V Voltage Reference, SO-8/DIP-8; ki_keywords: precision voltage reference; ki_fp_filters: SOIC*P1.27mm* DIP*W7.62mm*; Datasheet: http://datasheets.maximintegrated.com/en/ds/MAX6325-MAX6350.pdf; Description_: 0.5ppm/°C Low-Noise +4.096V Voltage Reference, SO-8/DIP-8
pins: 1 NC, 2 IN, 3 NR, 4 GND, 5 TRIM, 6 OUT, 7 NC, 8 NC

## MAX6350
designator *  value MAX6350  Reference: U
0.5ppm/°C Low-Noise +5V Voltage Reference, SO-8/DIP-8; ki_keywords: precision voltage reference; ki_fp_filters: SOIC*P1.27mm* DIP*W7.62mm*; Datasheet: http://datasheets.maximintegrated.com/en/ds/MAX6325-MAX6350.pdf; Description_: 0.5ppm/°C Low-Noise +5V Voltage Reference, SO-8/DIP-8
pins: 1 NC, 2 IN, 3 NR, 4 GND, 5 TRIM, 6 OUT, 7 NC, 8 NC

## MCP1501-10xCH
designator *  value MCP1501-10xCH  Reference: U
1.024V, 0.1%, 20mA, Precision Voltage Reference, SOT-23-6; ki_keywords: precision buffered voltage reference 1.024V; ki_fp_filters: SOT?23*; Footprint: Package_TO_SOT_SMD:SOT-23-6; Datasheet: http://ww1.microchip.com/downloads/en/DeviceDoc/20005474E.pdf; Description_: 1.024V, 0.1%, 20mA, Precision Voltage Reference, SOT-23-6
pins: 1 OUT, 2 GND, 3 GND, 4 ~{{SHDN}}, 5 GND, 6 VDD

## MCP1501-10xRW
designator *  value MCP1501-10xRW  Reference: U
1.024V, 0.1%, 20mA, Precision Voltage Reference, WDFN-8; ki_keywords: precision buffered voltage reference 1.024V; ki_fp_filters: WDFN*1EP*2x2mm*P0.5mm*; Footprint: Package_DFN_QFN:WDFN-8-1EP_2x2mm_P0.5mm_EP0.8x1.2mm; Datasheet: http://ww1.microchip.com/downloads/en/DeviceDoc/20005474E.pdf; Description_: 1.024V, 0.1%, 20mA, Precision Voltage Reference, WDFN-8
pins: 1 VDD, 2 GND, 3 ~{{SHDN}}, 4 GND, 5 GND, 6 GND, 7 OUT, 8 FB

## MCP1501-10xSN
designator *  value MCP1501-10xSN  Reference: U
1.024V, 0.1%, 20mA, Precision Voltage Reference, SOIC-8; ki_keywords: precision buffered voltage reference 1.024V; ki_fp_filters: SOIC*3.9x4.9mm*P1.27mm*; Footprint: Package_SO:SOIC-8_3.9x4.9mm_P1.27mm; Datasheet: http://ww1.microchip.com/downloads/en/DeviceDoc/20005474E.pdf; Description_: 1.024V, 0.1%, 20mA, Precision Voltage Reference, SOIC-8
pins: 1 VDD, 2 GND, 3 ~{{SHDN}}, 4 GND, 5 GND, 6 GND, 7 OUT, 8 FB

## MCP1501-12xCH
designator *  value MCP1501-12xCH  Reference: U
1.25V, 0.1%, 20mA, Precision Voltage Reference, SOT-23-6; ki_keywords: precision buffered voltage reference 1.25V; ki_fp_filters: SOT?23*; Footprint: Package_TO_SOT_SMD:SOT-23-6; Datasheet: http://ww1.microchip.com/downloads/en/DeviceDoc/20005474E.pdf; Description_: 1.25V, 0.1%, 20mA, Precision Voltage Reference, SOT-23-6
pins: 1 OUT, 2 GND, 3 GND, 4 ~{{SHDN}}, 5 GND, 6 VDD

## MCP1501-12xRW
designator *  value MCP1501-12xRW  Reference: U
1.25V, 0.1%, 20mA, Precision Voltage Reference, WDFN-8; ki_keywords: precision buffered voltage reference 1.25V; ki_fp_filters: WDFN*1EP*2x2mm*P0.5mm*; Footprint: Package_DFN_QFN:WDFN-8-1EP_2x2mm_P0.5mm_EP0.8x1.2mm; Datasheet: http://ww1.microchip.com/downloads/en/DeviceDoc/20005474E.pdf; Description_: 1.25V, 0.1%, 20mA, Precision Voltage Reference, WDFN-8
pins: 1 VDD, 2 GND, 3 ~{{SHDN}}, 4 GND, 5 GND, 6 GND, 7 OUT, 8 FB

## MCP1501-12xSN
designator *  value MCP1501-12xSN  Reference: U
1.25V, 0.1%, 20mA, Precision Voltage Reference, SOIC-8; ki_keywords: precision buffered voltage reference 1.25V; ki_fp_filters: SOIC*3.9x4.9mm*P1.27mm*; Footprint: Package_SO:SOIC-8_3.9x4.9mm_P1.27mm; Datasheet: http://ww1.microchip.com/downloads/en/DeviceDoc/20005474E.pdf; Description_: 1.25V, 0.1%, 20mA, Precision Voltage Reference, SOIC-8
pins: 1 VDD, 2 GND, 3 ~{{SHDN}}, 4 GND, 5 GND, 6 GND, 7 OUT, 8 FB

## MCP1501-18xCH
designator *  value MCP1501-18xCH  Reference: U
1.8V, 0.1%, 20mA, Precision Voltage Reference, SOT-23-6; ki_keywords: precision buffered voltage reference 1.8V; ki_fp_filters: SOT?23*; Footprint: Package_TO_SOT_SMD:SOT-23-6; Datasheet: http://ww1.microchip.com/downloads/en/DeviceDoc/20005474E.pdf; Description_: 1.8V, 0.1%, 20mA, Precision Voltage Reference, SOT-23-6
pins: 1 OUT, 2 GND, 3 GND, 4 ~{{SHDN}}, 5 GND, 6 VDD

## MCP1501-18xRW
designator *  value MCP1501-18xRW  Reference: U
1.8V, 0.1%, 20mA, Precision Voltage Reference, WDFN-8; ki_keywords: precision buffered voltage reference 1.8V; ki_fp_filters: WDFN*1EP*2x2mm*P0.5mm*; Footprint: Package_DFN_QFN:WDFN-8-1EP_2x2mm_P0.5mm_EP0.8x1.2mm; Datasheet: http://ww1.microchip.com/downloads/en/DeviceDoc/20005474E.pdf; Description_: 1.8V, 0.1%, 20mA, Precision Voltage Reference, WDFN-8
pins: 1 VDD, 2 GND, 3 ~{{SHDN}}, 4 GND, 5 GND, 6 GND, 7 OUT, 8 FB

## MCP1501-18xSN
designator *  value MCP1501-18xSN  Reference: U
1.8V, 0.1%, 20mA, Precision Voltage Reference, SOIC-8; ki_keywords: precision buffered voltage reference 1.8V; ki_fp_filters: SOIC*3.9x4.9mm*P1.27mm*; Footprint: Package_SO:SOIC-8_3.9x4.9mm_P1.27mm; Datasheet: http://ww1.microchip.com/downloads/en/DeviceDoc/20005474E.pdf; Description_: 1.8V, 0.1%, 20mA, Precision Voltage Reference, SOIC-8
pins: 1 VDD, 2 GND, 3 ~{{SHDN}}, 4 GND, 5 GND, 6 GND, 7 OUT, 8 FB

## MCP1501-20xCH
designator *  value MCP1501-20xCH  Reference: U
2.048V, 0.1%, 20mA, Precision Voltage Reference, SOT-23-6; ki_keywords: precision buffered voltage reference 2.048V; ki_fp_filters: SOT?23*; Footprint: Package_TO_SOT_SMD:SOT-23-6; Datasheet: http://ww1.microchip.com/downloads/en/DeviceDoc/20005474E.pdf; Description_: 2.048V, 0.1%, 20mA, Precision Voltage Reference, SOT-23-6
pins: 1 OUT, 2 GND, 3 GND, 4 ~{{SHDN}}, 5 GND, 6 VDD

## MCP1501-20xRW
designator *  value MCP1501-20xRW  Reference: U
2.048V, 0.1%, 20mA, Precision Voltage Reference, WDFN-8; ki_keywords: precision buffered voltage reference 2.048V; ki_fp_filters: WDFN*1EP*2x2mm*P0.5mm*; Footprint: Package_DFN_QFN:WDFN-8-1EP_2x2mm_P0.5mm_EP0.8x1.2mm; Datasheet: http://ww1.microchip.com/downloads/en/DeviceDoc/20005474E.pdf; Description_: 2.048V, 0.1%, 20mA, Precision Voltage Reference, WDFN-8
pins: 1 VDD, 2 GND, 3 ~{{SHDN}}, 4 GND, 5 GND, 6 GND, 7 OUT, 8 FB